# EAGLE library part MPU-6000 (library Eagle CMR)
6 axis Gyro with SPI and I2C interface
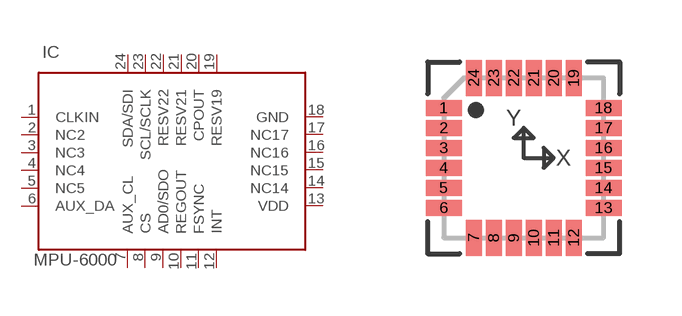
[diagram p19: symbol with the pads of QFN_24; footprint QFN_24]

Designator prefix IC

## MPU-6000  [QFN_24]
1  CLKIN
2  NC2
3  NC3
4  NC4
5  NC5
6  AUX_DA
7  AUX_CL
8  CS
9  AD0/SDO
10  REGOUT
11  FSYNC
12  INT
13  VDD
14  NC14
15  NC15
16  NC16
17  NC17
18  GND
19  RESV19
20  CPOUT
21  RESV21
22  RESV22
23  SCL/SCLK
24  SDA/SDI

## Footprint QFN_24 (pad centres in mm)
smd 0.9 x 0.4: 1 -2,1.25; 2 -2,0.75; 3 -2,0.25; 4 -2,-0.25; 5 -2,-0.75; 6 -2,-1.25; 13 2,-1.25; 14 2,-0.75; 15 2,-0.25; 16 2,0.25; 17 2,0.75; 18 2,1.25
smd 0.4 x 0.9: 7 -1.25,-2; 8 -0.75,-2; 9 -0.25,-2; 10 0.25,-2; 11 0.75,-2; 12 1.25,-2; 19 1.25,2; 20 0.75,2; 21 0.25,2; 22 -0.25,2; 23 -0.75,2; 24 -1.25,2